# Altium footprint library MCP2562-E_SN.PcbLib: 2 footprints
Each footprint in its own frame and in the unit in brackets; x right, y up, seen from the top. Pads: shape width x height; smd on the part's side, far side on the other; paste and mask are expansions set on the pad; w line width, h text height; cw(c..) or ccw(c..) is an arc to the next point about the centre after c.
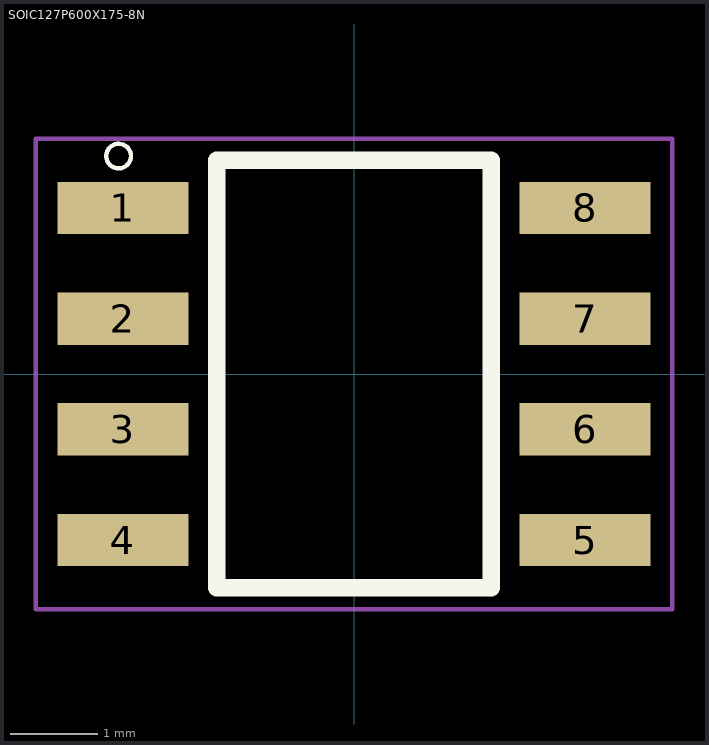
[diagram p0: the footprints below, top view; thin cyan lines are the x and y axes]

## PCBComponent_1 [mm]

## SOIC127P600X175-8N [mm]
pads (8):
  rect 1.5x0.6 smd: 1(-2.65,1.905) 2(-2.65,0.635) 3(-2.65,-0.635) 4(-2.65,-1.905) 5(2.65,-1.905) 6(2.65,-0.635) 7(2.65,0.635) 8(2.65,1.905)
Top Overlay:
  circle w0.05: c-2.7,2.5 r0.141
  lines w0.2: -1.575,-2.45 -1.575,2.45 1.575,2.45 1.575,-2.45 -1.575,-2.45
Mechanical 16:
  lines w0.05: -3.65,-2.7 -3.65,2.7 3.65,2.7 3.65,-2.7 -3.65,-2.7